# Altium schematic symbol library SCH - MCU - STM32 - ST MICROELECTRONICS STM32C031G(4-6)UX UFQFPN28.SchLib: 1 symbol
Pins are listed as number, name and electrical type; pins without a type are passive.

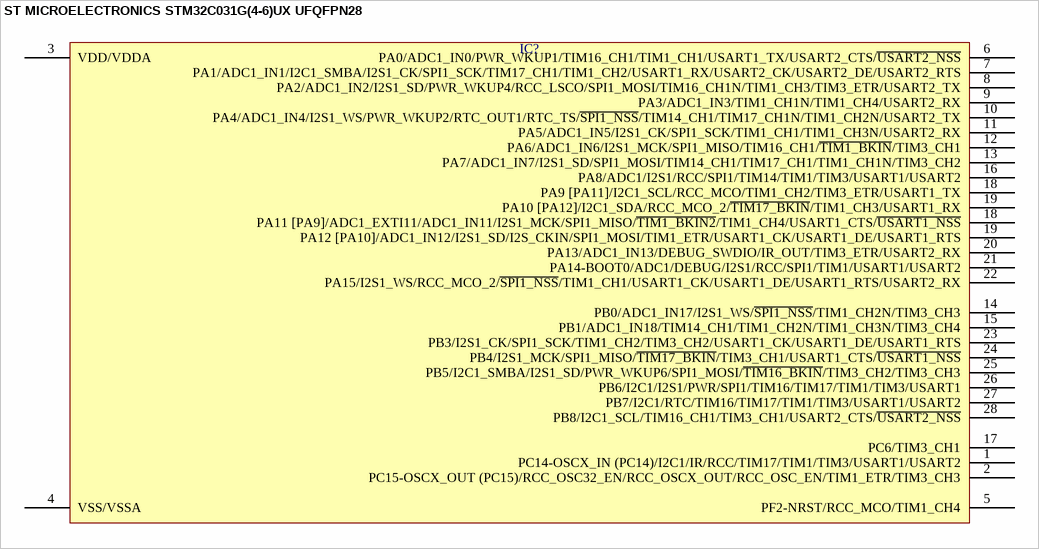
[diagram p0: symbol ST MICROELECTRONICS STM32C031G(4-6)UX UFQFPN28]

## ST MICROELECTRONICS STM32C031G(4-6)UX UFQFPN28
designator IC?  (value not drawn)
pins: 1 PC14-OSCX_IN (PC14)/I2C1/IR/RCC/TIM17/TIM1/TIM3/USART1/USART2, 2 PC15-OSCX_OUT (PC15)/RCC_OSC32_EN/RCC_OSCX_OUT/RCC_OSC_EN/TIM1_ETR/TIM3_CH3, 3 VDD/VDDA, 4 VSS/VSSA, 5 PF2-NRST/RCC_MCO/TIM1_CH4, 6 PA0/ADC1_IN0/PWR_WKUP1/TIM16_CH1/TIM1_CH1/USART1_TX/USART2_CTS/~{USART2_NSS}, 7 PA1/ADC1_IN1/I2C1_SMBA/I2S1_CK/SPI1_SCK/TIM17_CH1/TIM1_CH2/USART1_RX/USART2_CK/USART2_DE/USART2_RTS, 8 PA2/ADC1_IN2/I2S1_SD/PWR_WKUP4/RCC_LSCO/SPI1_MOSI/TIM16_CH1N/TIM1_CH3/TIM3_ETR/USART2_TX, 9 PA3/ADC1_IN3/TIM1_CH1N/TIM1_CH4/USART2_RX, 10 PA4/ADC1_IN4/I2S1_WS/PWR_WKUP2/RTC_OUT1/RTC_TS/~{SPI1_NSS}/TIM14_CH1/TIM17_CH1N/TIM1_CH2N/USART2_TX, 11 PA5/ADC1_IN5/I2S1_CK/SPI1_SCK/TIM1_CH1/TIM1_CH3N/USART2_RX, 12 PA6/ADC1_IN6/I2S1_MCK/SPI1_MISO/TIM16_CH1/~{TIM1_BKIN}/TIM3_CH1, 13 PA7/ADC1_IN7/I2S1_SD/SPI1_MOSI/TIM14_CH1/TIM17_CH1/TIM1_CH1N/TIM3_CH2, 14 PB0/ADC1_IN17/I2S1_WS/~{SPI1_NSS}/TIM1_CH2N/TIM3_CH3, 15 PB1/ADC1_IN18/TIM14_CH1/TIM1_CH2N/TIM1_CH3N/TIM3_CH4, 16 PA8/ADC1/I2S1/RCC/SPI1/TIM14/TIM1/TIM3/USART1/USART2, 17 PC6/TIM3_CH1, 18 PA9 [PA11]/I2C1_SCL/RCC_MCO/TIM1_CH2/TIM3_ETR/USART1_TX, 18 PA11 [PA9]/ADC1_EXTI11/ADC1_IN11/I2S1_MCK/SPI1_MISO/~{TIM1_BKIN2}/TIM1_CH4/USART1_CTS/~{USART1_NSS}, 19 PA10 [PA12]/I2C1_SDA/RCC_MCO_2/~{TIM17_BKIN}/TIM1_CH3/USART1_RX, 19 PA12 [PA10]/ADC1_IN12/I2S1_SD/I2S_CKIN/SPI1_MOSI/TIM1_ETR/USART1_CK/USART1_DE/USART1_RTS, 20 PA13/ADC1_IN13/DEBUG_SWDIO/IR_OUT/TIM3_ETR/USART2_RX, 21 PA14-BOOT0/ADC1/DEBUG/I2S1/RCC/SPI1/TIM1/USART1/USART2, 22 PA15/I2S1_WS/RCC_MCO_2/~{SPI1_NSS}/TIM1_CH1/USART1_CK/USART1_DE/USART1_RTS/USART2_RX, 23 PB3/I2S1_CK/SPI1_SCK/TIM1_CH2/TIM3_CH2/USART1_CK/USART1_DE/USART1_RTS, 24 PB4/I2S1_MCK/SPI1_MISO/~{TIM17_BKIN}/TIM3_CH1/USART1_CTS/~{USART1_NSS}, 25 PB5/I2C1_SMBA/I2S1_SD/PWR_WKUP6/SPI1_MOSI/~{TIM16_BKIN}/TIM3_CH2/TIM3_CH3, 26 PB6/I2C1/I2S1/PWR/SPI1/TIM16/TIM17/TIM1/TIM3/USART1, 27 PB7/I2C1/RTC/TIM16/TIM17/TIM1/TIM3/USART1/USART2, 28 PB8/I2C1_SCL/TIM16_CH1/TIM3_CH1/USART2_CTS/~{USART2_NSS}